# Altium schematic symbol library CON10.SchLib: 1 symbol
Pins are listed as number, name and electrical type; pins without a type are passive.

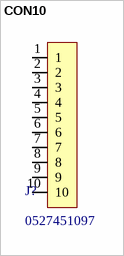
[diagram p0: symbol CON10]

## CON10
designator J?, comment 0527451097
PDF: http://www.molex.com/pdm_docs/sd/527451097_sd.pdf; BUY_LINK: http://www.digikey.com/product-detail/en/0527451097/WM7973CT-ND/2074162; PRICE: 1.64000; ID: 0527451097
footprint 0527451097
pins: 1, 2, 3, 4, 5, 6, 7, 8, 9, 10